# EAGLE library part LT1769 (library LT1769)
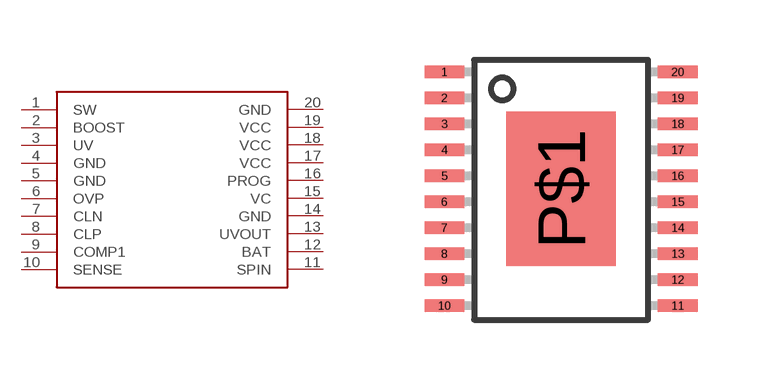
[diagram p0: symbol with the pads of TSSOP24; footprint TSSOP24]

Designator prefix -

## LT1769  [TSSOP24]
1  SW
2  BOOST
3  UV
4  GND
5  GND
6  OVP
7  CLN
8  CLP
9  COMP1
10  SENSE
11  SPIN
12  BAT
13  UVOUT
14  GND
15  VC
16  PROG
17  VCC
18  VCC
19  VCC
20  GND

## Footprint TSSOP24 (pad centres in mm)
24-Lead Thin Shrink Small Outline Package TSSOP (RU-24) Source: http://www.analog.com/UploadedFiles/Data_Sheets/39677768AD7714_c.pdf
smd 0.991 x 0.305: 1 -2.918,2.925; 2 -2.918,2.275; 3 -2.918,1.625; 4 -2.918,0.975; 5 -2.918,0.325; 6 -2.918,-0.325; 7 -2.918,-0.975; 8 -2.918,-1.625; 9 -2.918,-2.275; 10 -2.918,-2.925; 11 2.918,-2.925; 12 2.918,-2.275; 13 2.918,-1.625; 14 2.918,-0.975; 15 2.918,-0.325; 16 2.918,0.325; 17 2.918,0.975; 18 2.918,1.625; 19 2.918,2.275; 20 2.918,2.925
smd 2.74 x 3.86: P$1 0,0